# EAGLE library part MM74HC123AM (library Fairchild_By_element14_Batch_1)
Dual Retriggerable Monostable Multivibrator
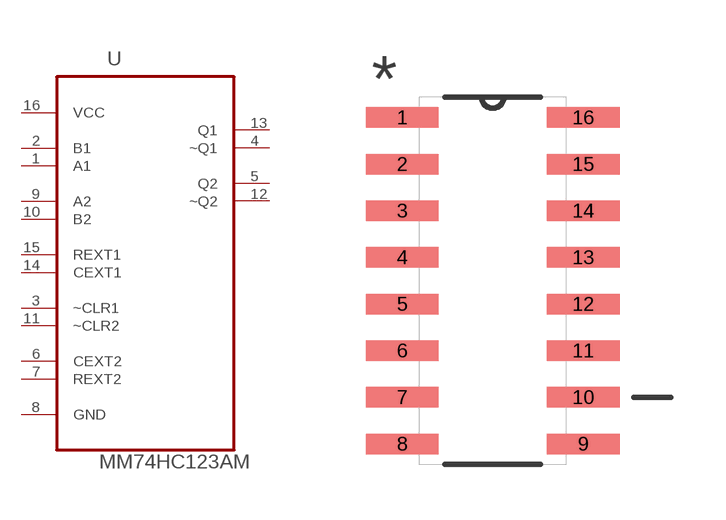
[diagram p238: symbol with the pads of SOIC127P600X175-16N; footprint SOIC127P600X175-16N]

Designator prefix U

## MM74HC123AM (MPN: MM74HC123AM; OC_FARNELL: 1013961; OC_NEWARK: 78K6058; PACKAGE: SOIC-16; SUPPLIER: Fairchild Semiconductor)  [SOIC127P600X175-16N]
1  A1  in
2  B1  in
3  ~CLR1  in
4  ~Q1  out
5  Q2  out
6  CEXT2  in
7  REXT2  in
8  GND  pas
9  A2  in
10  B2  in
11  ~CLR2  in
12  ~Q2  out
13  Q1  out
14  CEXT1  in
15  REXT1  in
16  VCC  pwr

## Footprint SOIC127P600X175-16N (pad centres in mm)
smd 1.981 x 0.559: 1 -2.464,4.445; 2 -2.464,3.175; 3 -2.464,1.905; 4 -2.464,0.635; 5 -2.464,-0.635; 6 -2.464,-1.905; 7 -2.464,-3.175; 8 -2.464,-4.445; 9 2.464,-4.445; 10 2.464,-3.175; 11 2.464,-1.905; 12 2.464,-0.635; 13 2.464,0.635; 14 2.464,1.905; 15 2.464,3.175; 16 2.464,4.445